# EAGLE library part MICROMATCH-8 (library con-amp-micromatch)
MicroMaTch 8 7-215464-8 / 0-215464-8 Drawing Number C-215464 DDEController.pdf
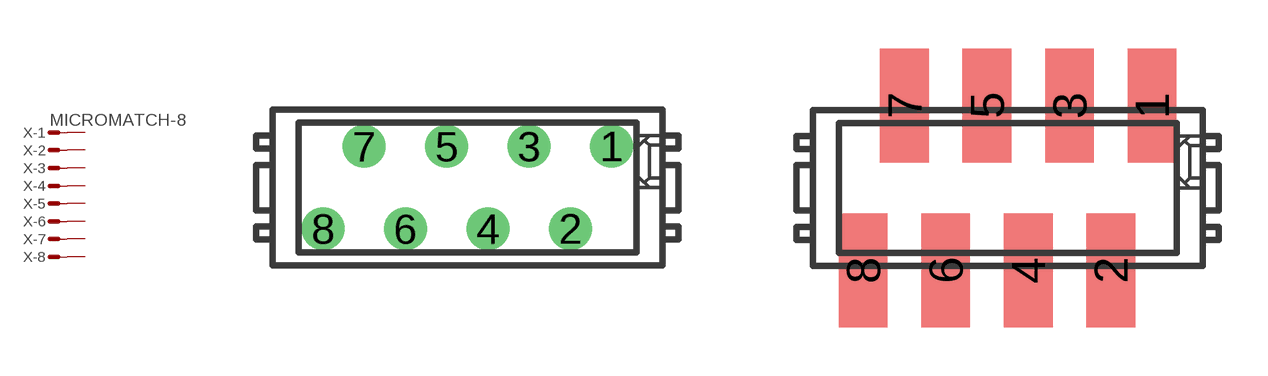
[diagram p6: symbol with the pads of MICROMATCH-8; footprints MICROMATCH-8, MMT-SMD-8]

Designator prefix X; gates -1=MV -2=M -3=M -4=M -5=M -6=M -7=M -8=M

## MICROMATCH-8  [MICROMATCH-8]
1  -1:S  pas
2  -2:S  pas
3  -3:S  pas
4  -4:S  pas
5  -5:S  pas
6  -6:S  pas
7  -7:S  pas
8  -8:S  pas

## MICROMATCH-8SM  [MMT-SMD-8]
Pads as for MICROMATCH-8

## MICROMATCH-8SMF  [MMT-F-SMD-8]
Pads as for MICROMATCH-8

## Footprint MICROMATCH-8 (pad centres in mm)
MicroMaTch 8 7-215464-8 / 0-215464-8 Drawing Number C-215464 DDEController.pdf
drill 0.813 round: 1 4.445,1.27; 2 3.175,-1.27; 3 1.905,1.27; 4 0.635,-1.27; 5 -0.635,1.27; 6 -1.905,-1.27; 7 -3.175,1.27; 8 -4.445,-1.27

## Footprint MMT-SMD-8 (pad centres in mm)
MicroMaTch 8 SMD 7-215464-8
smd 1.5 x 3.5: 1 4.445,2.54; 2 3.175,-2.54; 3 1.905,2.54; 4 0.635,-2.54; 5 -0.635,2.54; 6 -1.905,-2.54; 7 -3.175,2.54; 8 -4.445,-2.54

## Footprint MMT-F-SMD-8 (pad centres in mm)
MicroMaTch 8 SMD 7-215464-8
smd 1.3 x 3.5: 1 4.445,-2.54; 2 3.175,2.54; 3 1.905,-2.54; 4 0.635,2.54; 5 -0.635,-2.54; 6 -1.905,2.54; 7 -3.175,-2.54; 8 -4.445,2.54